# Altium footprint library Transceivers.PcbLib: 9 footprints
Each footprint in its own frame and in the unit in brackets; x right, y up, seen from the top. Pads: shape width x height; smd on the part's side, far side on the other; paste and mask are expansions set on the pad; w line width, h text height; cw(c..) or ccw(c..) is an arc to the next point about the centre after c.
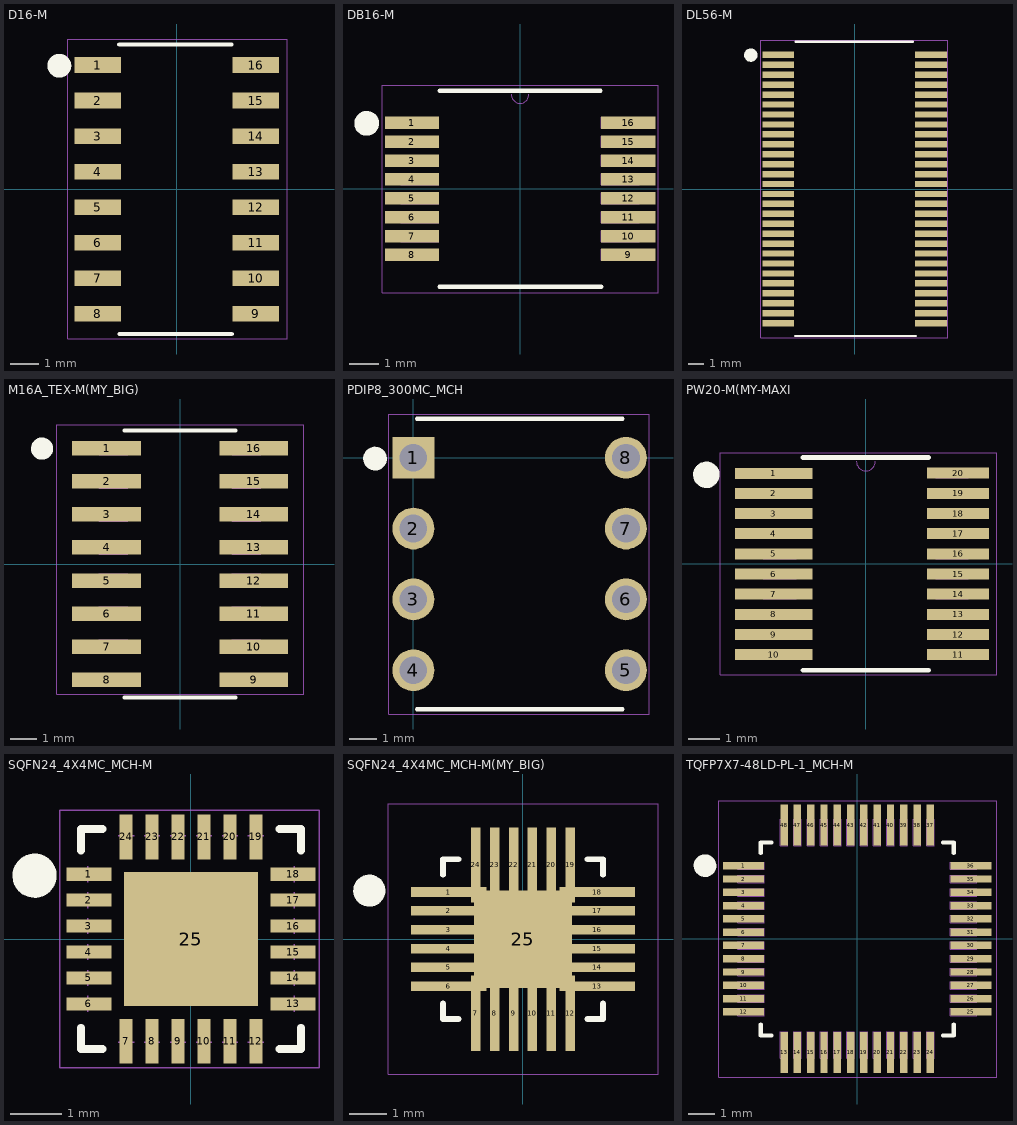
[diagram p0: the footprints below, top view; thin cyan lines are the x and y axes]

## D16-M [mil]
pads (16):
  rect 65.5x22 smd paste+0 mask+0: 1(-111.25,175) 2(-111.25,125) 3(-111.25,75) 4(-111.25,25) 5(-111.25,-25) 6(-111.25,-75) 7(-111.25,-125) 8(-111.25,-175) 9(111.25,-175) 10(111.25,-125) 11(111.25,-75) 12(111.25,-25) 13(111.25,25) 14(111.25,75) 15(111.25,125) 16(111.25,175)
Top Overlay:
  circle w10: c-165.06,174.02 r11.81
  rectangle: -176.63,163.72 -154.95,182.52
  lines w6: -80.83,203.94 77.17,203.94 ; -80.52,-203.2 77.49,-203.2
  text ".Designator" at 169.16,211.31 h31.5
Top Component Outline:
  lines w0.98: -153.55,-210.11 155.13,-210.11 ; -153.55,-209.88 -153.55,211.57 ; -153.55,211.51 155.13,211.33 ; 155.13,-210.29 155.13,211.2
3D body "D16.step": height 69.09, standoff 0, extent -122,-197 122.01,197.01

## DB16-M [mil]
pads (16):
  rect 73.5x17 smd paste+0 mask+0: 1(-146.75,89.57) 2(-146.75,63.98) 3(-146.75,38.39) 4(-146.75,12.8) 5(-146.75,-12.8) 6(-146.75,-38.39) 7(-146.75,-63.98) 8(-146.75,-89.57) 9(146.75,-89.57) 10(146.75,-63.98) 11(146.75,-38.39) 12(146.75,-12.8) 13(146.75,12.8) 14(146.75,38.39) 15(146.75,63.98) 16(146.75,89.57)
Top Overlay:
  rectangle: -217.69,79.46 -194.89,99.62
  lines w6: -109.27,-133 109.89,-132.8 ; -108.76,133 109.02,132.89
  lines w10: -196.2,89.51 ccw(c-208,88.86) -196.2,89.51
  text ".Designator" at 200.35,137.08 h31.5
Top Component Outline:
  lines w1: -186.68,-140.93 187,-140.93 187,140.56 -186.68,140.56 -186.68,-140.93
Mechanical 13:
  lines w0: -12,128 ccw(c0,128) 12,128
  lines w1: -161.5,-97.07 -110,-97.07 -110,-82.07 -161.5,-82.07 -161.5,-97.07 ; -161.5,-71.48 -110,-71.48 -110,-56.48 -161.5,-56.48 -161.5,-71.48 ; -161.5,-45.89 -110,-45.89 -110,-30.89 -161.5,-30.89 -161.5,-45.89 ; -161.5,-20.3 -110,-20.3 -110,-5.3 -161.5,-5.3 -161.5,-20.3 ; -161.5,5.3 -110,5.3 -110,20.3 -161.5,20.3 -161.5,5.3 ; -161.5,30.89 -110,30.89 -110,45.89 -161.5,45.89 -161.5,30.89 ; -161.5,56.48 -110,56.48 -110,71.48 -161.5,71.48 -161.5,56.48 ; -161.5,82.07 -110,82.07 -110,97.07 -161.5,97.07 -161.5,82.07 ; 110,-97.07 161.5,-97.07 161.5,-82.07 110,-82.07 110,-97.07 ; 110,-71.48 161.5,-71.48 161.5,-56.48 110,-56.48 110,-71.48 ; 110,-45.89 161.5,-45.89 161.5,-30.89 110,-30.89 110,-45.89 ; 110,-20.3 161.5,-20.3 161.5,-5.3 110,-5.3 110,-20.3 ; 110,5.3 161.5,5.3 161.5,20.3 110,20.3 110,5.3 ; 110,30.89 161.5,30.89 161.5,45.89 110,45.89 110,30.89 ; 110,56.48 161.5,56.48 161.5,71.48 110,71.48 110,56.48 ; 110,82.07 161.5,82.07 161.5,97.07 110,97.07 110,82.07
3D body: height 10, standoff 0, extent 0,0 10,10
3D body "DB16.step": height 79.09, standoff 0, extent -161.49,-127.99 161.5,128

## DL56-M [mil]
pads (56):
  rect 80x16 smd paste+0 mask+0: 1(-192,337.5) 2(-192,312.5) 3(-192,287.5) 4(-192,262.5) 5(-192,237.5) 6(-192,212.5) 7(-192,187.5) 8(-192,162.5) 9(-192,137.5) 10(-192,112.5) 11(-192,87.5) 12(-192,62.5) 13(-192,37.5) 14(-192,12.5) 15(-192,-12.5) 16(-192,-37.5) 17(-192,-62.5) 18(-192,-87.5) 19(-192,-112.5) 20(-192,-137.5) 21(-192,-162.5) 22(-192,-187.5) 23(-192,-212.5) 24(-192,-237.5) 25(-192,-262.5) 26(-192,-287.5) 27(-192,-312.5) 28(-192,-337.5) 29(192,-337.5) 30(192,-312.5) 31(192,-287.5) 32(192,-262.5) 33(192,-237.5) 34(192,-212.5) 35(192,-187.5) 36(192,-162.5) 37(192,-137.5) 38(192,-112.5) 39(192,-87.5) 40(192,-62.5) 41(192,-37.5) 42(192,-12.5) 43(192,12.5) 44(192,37.5) 45(192,62.5) 46(192,87.5) 47(192,112.5) 48(192,137.5) 49(192,162.5) 50(192,187.5) 51(192,212.5) 52(192,237.5) 53(192,262.5) 54(192,287.5) 55(192,312.5) 56(192,337.5)
Top Overlay:
  rectangle: -270.95,327.6 -248.16,347.76
  lines w6: -149.15,-370 154.5,-370 ; -147.68,370.34 147.04,370.16
  lines w10: -249.47,337.65 ccw(c-261.26,337) -249.47,337.65
  text ".Designator" at 248.32,371.31 h31.5
Top Component Outline:
  lines w1: -236.44,-374.59 -236.44,374.24 234.72,374.24 234.72,-374.59 -236.44,-374.59
3D body: height 10, standoff 0, extent 0,0 10,10
3D body "DL56.step": height 110.12, standoff 0, extent -205,-365 215,364.99

## M16A_TEX-M(MY_BIG) [mil]
pads (16):
  rect 104.02x21.97 smd paste+0 mask+0: 1(-111.33,175) 2(-111.33,125) 3(-111.33,75) 4(-111.33,25) 5(-111.33,-25) 6(-111.33,-75) 7(-111.33,-125) 8(-111.33,-175) 9(111.33,-175) 10(111.33,-125) 11(111.33,-75) 12(111.33,-25) 13(111.33,25) 14(111.33,75) 15(111.33,125) 16(111.33,175)
Top Overlay:
  rectangle: -218.62,165.24 -195.83,185.4
  lines w6: -84,-202 84,-202 ; -84,202 84,202
  lines w10: -197.14,175.3 ccw(c-208.93,174.65) -197.14,175.3
  text ".Designator" at 198.56,204.31 h31.5
Top Component Outline:
  lines w1: -186.28,-197 187.2,-197 187.2,210.48 -186.28,210.48 -186.28,-197
Mechanical 13:
  lines w1: -122,-185 -79,-185 -79,-165 -122,-165 -122,-185 ; -122,-135 -79,-135 -79,-115 -122,-115 -122,-135 ; -122,-85 -79,-85 -79,-65 -122,-65 -122,-85 ; -122,-35 -79,-35 -79,-15 -122,-15 -122,-35 ; -122,15 -79,15 -79,35 -122,35 -122,15 ; -122,65 -79,65 -79,85 -122,85 -122,65 ; -122,115 -79,115 -79,135 -122,135 -122,115 ; -122,165 -79,165 -79,185 -122,185 -122,165 ; 79,-185 122,-185 122,-165 79,-165 79,-185 ; 79,-135 122,-135 122,-115 79,-115 79,-135 ; 79,-85 122,-85 122,-65 79,-65 79,-85 ; 79,-35 122,-35 122,-15 79,-15 79,-35 ; 79,15 122,15 122,35 79,35 79,15 ; 79,65 122,65 122,85 79,85 79,65 ; 79,115 122,115 122,135 79,135 79,115 ; 79,165 122,165 122,185 79,185 79,165
3D body "D0016A.stp": height 68.9, standoff 0, extent -120.72,-193.18 116.54,196.59

## PDIP8_300MC_MCH [mil]
pads (8):
  rect 59x59 hole 39 mask+0: 1(0,0)
  round 59 hole 39 mask+0: 2(0,-100) 3(0,-200) 4(0,-300) 5(300,-300) 6(300,-200) 7(300,-100) 8(300,0)
Top Overlay:
  rectangle: -63.88,-10.65 -41.09,9.5
  lines w6: 5,-355 295,-355 ; 5,55 295,55
  lines w10: -42.4,-0.6 ccw(c-54.19,-1.25) -42.4,-0.6
  text ".Designator" at 353.43,55.1 h31.5
Top Component Outline:
  lines w1: -34.71,-361.8 -34.71,61.71 333.02,61.71 333.02,-361.8 -34.71,-361.8
Mechanical 13:
  lines w1: -19.5,-319.5 -19.5,-280.5 10,-280.5 10,-319.5 -19.5,-319.5 ; -19.5,-219.5 -19.5,-180.5 10,-180.5 10,-219.5 -19.5,-219.5 ; -19.5,-119.5 -19.5,-80.5 10,-80.5 10,-119.5 -19.5,-119.5 ; -19.5,-19.5 -19.5,19.5 10,19.5 10,-19.5 -19.5,-19.5 ; 290,-319.5 290,-280.5 319.5,-280.5 319.5,-319.5 290,-319.5 ; 290,-219.5 290,-180.5 319.5,-180.5 319.5,-219.5 290,-219.5 ; 290,-119.5 290,-80.5 319.5,-80.5 319.5,-119.5 290,-119.5 ; 290,-19.5 290,19.5 319.5,19.5 319.5,-19.5 290,-19.5
3D body: height 10, standoff 0, extent 0,0 10,10
3D body "PDIP8_300MC_MCH.step": height 215.12, standoff -100, extent -15,-350 305,50

## PW20-M(MY-MAXI [mm]
pads (20):
  rect 2.5x0.355 smd paste+0 mask+0: 1(-2.971,2.921) 2(-2.971,2.275) 3(-2.971,1.625) 4(-2.971,0.975) 5(-2.971,0.325) 6(-2.971,-0.325) 7(-2.971,-0.975) 8(-2.971,-1.625) 9(-2.971,-2.275) 10(-2.971,-2.925)
  rect 2x0.355 smd paste+0 mask+0: 11(2.971,-2.925) 12(2.971,-2.275) 13(2.971,-1.625) 14(2.971,-0.975) 15(2.971,-0.325) 16(2.971,0.325) 17(2.971,0.975) 18(2.971,1.625) 19(2.971,2.275) 20(2.971,2.925)
Top Overlay:
  rectangle: -5.429,2.649 -4.85,3.161
  lines w0.152: -2.026,-3.429 2.026,-3.429 ; -2.026,3.429 2.026,3.429
  lines w0.254: -4.843,2.89 ccw(c-5.142,2.873) -4.843,2.89
  text ".Designator" at 4.562,3.146 h0.8
Top Component Outline:
  lines w0.025: -4.694,-3.573 -4.694,3.581 4.224,3.581 4.224,-3.573 -4.694,-3.573
Mechanical 13:
  lines w0: -0.305,3.302 ccw(c0,3.302) 0.305,3.302
  lines w0.025: -3.302,-3.077 -3.302,-2.773 -2.248,-2.773 -2.248,-3.077 -3.302,-3.077 ; -3.302,-2.427 -3.302,-2.123 -2.248,-2.123 -2.248,-2.427 -3.302,-2.427 ; -3.302,-1.777 -3.302,-1.473 -2.248,-1.473 -2.248,-1.777 -3.302,-1.777 ; -3.302,-1.127 -3.302,-0.823 -2.248,-0.823 -2.248,-1.127 -3.302,-1.127 ; -3.302,-0.477 -3.302,-0.173 -2.248,-0.173 -2.248,-0.477 -3.302,-0.477 ; -3.302,0.173 -3.302,0.477 -2.248,0.477 -2.248,0.173 -3.302,0.173 ; -3.302,0.823 -3.302,1.127 -2.248,1.127 -2.248,0.823 -3.302,0.823 ; -3.302,1.473 -3.302,1.777 -2.248,1.777 -2.248,1.473 -3.302,1.473 ; -3.302,2.123 -3.302,2.427 -2.248,2.427 -2.248,2.123 -3.302,2.123 ; -3.302,2.773 -3.302,3.077 -2.248,3.077 -2.248,2.773 -3.302,2.773 ; 2.248,-3.077 2.248,-2.773 3.302,-2.773 3.302,-3.077 2.248,-3.077 ; 2.248,-2.427 2.248,-2.123 3.302,-2.123 3.302,-2.427 2.248,-2.427 ; 2.248,-1.777 2.248,-1.473 3.302,-1.473 3.302,-1.777 2.248,-1.777 ; 2.248,-1.127 2.248,-0.823 3.302,-0.823 3.302,-1.127 2.248,-1.127 ; 2.248,-0.477 2.248,-0.173 3.302,-0.173 3.302,-0.477 2.248,-0.477 ; 2.248,0.173 2.248,0.477 3.302,0.477 3.302,0.173 2.248,0.173 ; 2.248,0.823 2.248,1.127 3.302,1.127 3.302,0.823 2.248,0.823 ; 2.248,1.473 2.248,1.777 3.302,1.777 3.302,1.473 2.248,1.473 ; 2.248,2.123 2.248,2.427 3.302,2.427 3.302,2.123 2.248,2.123 ; 2.248,2.773 2.248,3.077 3.302,3.077 3.302,2.773 2.248,2.773
3D body "PW0020A.stp": height 1.13, standoff 0, extent -3.2,-3.25 3.2,3.25

## SQFN24_4X4MC_MCH-M [mil]
pads (25):
  rect 34x10 smd paste+0 mask+0: 1(-77.5,49.21) 2(-77.5,29.53) 3(-77.5,9.84) 4(-77.5,-9.84) 5(-77.5,-29.53) 6(-77.5,-49.21) 13(77.5,-49.21) 14(77.5,-29.53) 15(77.5,-9.84) 16(77.5,9.84) 17(77.5,29.53) 18(77.5,49.21)
  rect 10x34 smd paste+0 mask+0: 7(-49.21,-77.5) 8(-29.53,-77.5) 9(-9.84,-77.5) 10(9.84,-77.5) 11(29.53,-77.5) 12(49.21,-77.5) 19(49.21,77.5) 20(29.53,77.5) 21(9.84,77.5) 22(-9.84,77.5) 23(-29.53,77.5) 24(-49.21,77.5)
  rect 102x102 smd paste-50.5 mask+0: 25(0,0)
Top Overlay:
  rectangle: -128.41,38.66 -105.61,58.82
  lines w6: -83.5,-67.31 -83.5,-83.5 -67.31,-83.5 ; -83.5,67.31 -83.5,83.5 -67.31,83.5 ; 67.31,-83.5 83.5,-83.5 83.5,-67.31 ; 67.31,83.5 83.5,83.5 83.5,67.31
  lines w10: -106.92,48.71 ccw(c-118.72,48.06) -106.92,48.71
  text ".Designator" at -93.76,89.68 h31.5
Top Paste:
  region: 47.06,-3.94 3.94,-3.94 3.94,-47.06 47.06,-47.06
  region: 47.06,47.06 3.94,47.06 3.94,3.94 47.06,3.94
  region: -3.94,-3.94 -47.06,-3.94 -47.06,-47.06 -3.94,-47.06
  region: -3.94,47.06 -47.06,47.06 -47.06,3.94 -3.94,3.94
Top Component Outline:
  lines w1: -99.68,-97.5 97.14,-97.5 97.14,97.56 -99.68,97.56 -99.68,-97.5
Mechanical 13:
  lines w1: -78.5,-55.21 -78.5,-43.21 -78.5,-55.21 ; -78.5,-35.53 -78.5,-23.53 -78.5,-35.53 ; -78.5,-15.84 -78.5,-3.84 -78.5,-15.84 ; -78.5,3.84 -78.5,15.84 -78.5,3.84 ; -78.5,23.53 -78.5,35.53 -78.5,23.53 ; -78.5,43.21 -78.5,55.21 -78.5,43.21 ; -55.21,-78.5 -43.21,-78.5 -55.21,-78.5 ; -55.21,78.5 -43.21,78.5 -55.21,78.5 ; -35.53,-78.5 -23.53,-78.5 -35.53,-78.5 ; -35.53,78.5 -23.53,78.5 -35.53,78.5 ; -15.84,-78.5 -3.84,-78.5 -15.84,-78.5 ; -15.84,78.5 -3.84,78.5 -15.84,78.5 ; 3.84,-78.5 15.84,-78.5 3.84,-78.5 ; 3.84,78.5 15.84,78.5 3.84,78.5 ; 23.53,-78.5 35.53,-78.5 23.53,-78.5 ; 23.53,78.5 35.53,78.5 23.53,78.5 ; 43.21,-78.5 55.21,-78.5 43.21,-78.5 ; 43.21,78.5 55.21,78.5 43.21,78.5 ; 78.5,-55.21 78.5,-43.21 78.5,-55.21 ; 78.5,-35.53 78.5,-23.53 78.5,-35.53 ; 78.5,-15.84 78.5,-3.84 78.5,-15.84 ; 78.5,3.84 78.5,15.84 78.5,3.84 ; 78.5,23.53 78.5,35.53 78.5,23.53 ; 78.5,43.21 78.5,55.21 78.5,43.21
3D body: height 10, standoff 0, extent 0,0 10,10
3D body "SQFN24_4X4MC_MCH.step": height 39.09, standoff 0, extent -78.51,-78.51 78.5,78.5

## SQFN24_4X4MC_MCH-M(MY_BIG) [mil]
pads (25):
  rect 78.74x10 smd paste+0 mask+0: 1(-77.5,49.21) 2(-77.5,29.53) 3(-77.5,9.84) 4(-77.5,-9.84) 5(-77.5,-29.53) 6(-77.5,-49.21) 13(77.5,-49.21) 14(77.5,-29.53) 15(77.5,-9.84) 16(77.5,9.84) 17(77.5,29.53) 18(77.5,49.21)
  rect 10x78.74 smd paste+0 mask+0: 7(-49.21,-77.5) 8(-29.53,-77.5) 9(-9.84,-77.5) 10(9.84,-77.5) 11(29.53,-77.5) 12(49.21,-77.5) 19(49.21,77.5) 20(29.53,77.5) 21(9.84,77.5) 22(-9.84,77.5) 23(-29.53,77.5) 24(-49.21,77.5)
  rect 102x102 smd paste-50.5 mask+0: 25(0,0)
Top Overlay:
  rectangle: -170.19,41.27 -147.4,61.43
  lines w6: -83.5,-67.31 -83.5,-83.5 -67.31,-83.5 ; -83.5,67.31 -83.5,83.5 -67.31,83.5 ; 67.31,-83.5 83.5,-83.5 83.5,-67.31 ; 67.31,83.5 83.5,83.5 83.5,67.31
  lines w10: -148.71,51.32 ccw(c-160.5,50.67) -148.71,51.32
  text ".Designator" at -107.74,92.76 h31.5
Top Paste:
  region: -3.94,47.06 -47.06,47.06 -47.06,3.94 -3.94,3.94
  region: -3.94,-3.94 -47.06,-3.94 -47.06,-47.06 -3.94,-47.06
  region: 47.06,47.06 3.94,47.06 3.94,3.94 47.06,3.94
  region: 47.06,-3.94 3.94,-3.94 3.94,-47.06 47.06,-47.06
Top Component Outline:
  lines w1: -140.88,-140.93 -140.88,141.24 141.04,141.24 141.04,-140.93 -140.88,-140.93
3D body "SQFN24_4X4MC_MCH.step": height 39.09, standoff 0, extent -78.58,-77.38 78.42,79.62

## TQFP7X7-48LD-PL-1_MCH-M [mil]
pads (48):
  rect 60.65x11 smd paste+0 mask+0: 1(-168.33,108.27) 2(-168.33,88.58) 3(-168.33,68.9) 4(-168.33,49.21) 5(-168.33,29.53) 6(-168.33,9.84) 7(-168.33,-9.84) 8(-168.33,-29.53) 9(-168.33,-49.21) 10(-168.33,-68.9) 11(-168.33,-88.58) 12(-168.33,-108.27) 25(168.33,-108.27) 26(168.33,-88.58) 27(168.33,-68.9) 28(168.33,-49.21) 29(168.33,-29.53) 30(168.33,-9.84) 31(168.33,9.84) 32(168.33,29.53) 33(168.33,49.21) 34(168.33,68.9) 35(168.33,88.58) 36(168.33,108.27)
  rect 11x60.65 smd paste+0 mask+0: 13(-108.27,-168.33) 14(-88.58,-168.33) 15(-68.9,-168.33) 16(-49.21,-168.33) 17(-29.53,-168.33) 18(-9.84,-168.33) 19(9.84,-168.33) 20(29.53,-168.33) 21(49.21,-168.33) 22(68.9,-168.33) 23(88.58,-168.33) 24(108.27,-168.33) 37(108.27,168.33) 38(88.58,168.33) 39(68.9,168.33) 40(49.21,168.33) 41(29.53,168.33) 42(9.84,168.33) 43(-9.84,168.33) 44(-29.53,168.33) 45(-49.21,168.33) 46(-68.9,168.33) 47(-88.58,168.33) 48(-108.27,168.33)
Top Overlay:
  rectangle: -235.29,98.94 -212.5,119.1
  lines w6: -143,-126.87 -143,-143 -126.87,-143 ; -143,126.87 -143,143 -126.87,143 ; 126.87,-143 143,-143 143,-126.87 ; 126.87,143 143,143 143,126.87
  lines w10: -213.81,109 ccw(c-225.6,108.35) -213.81,109
  text ".Designator" at -199.14,157.69 h31.5
Top Component Outline:
  lines w1: -205,-205.34 -205,204.78 207.05,204.78 207.05,-205.34 -205,-205.34
Mechanical 13:
  drawing of 192 lines, arcs and shapes, not listed
3D body: height 10, standoff 0, extent 0,0 10,10
3D body "KSZ8041TL.STEP": height 44.29, standoff -2.95, extent -177.17,-172.17 177.16,182.16